# EAGLE library part ST2-BOARD-50-END (library module-footprints)
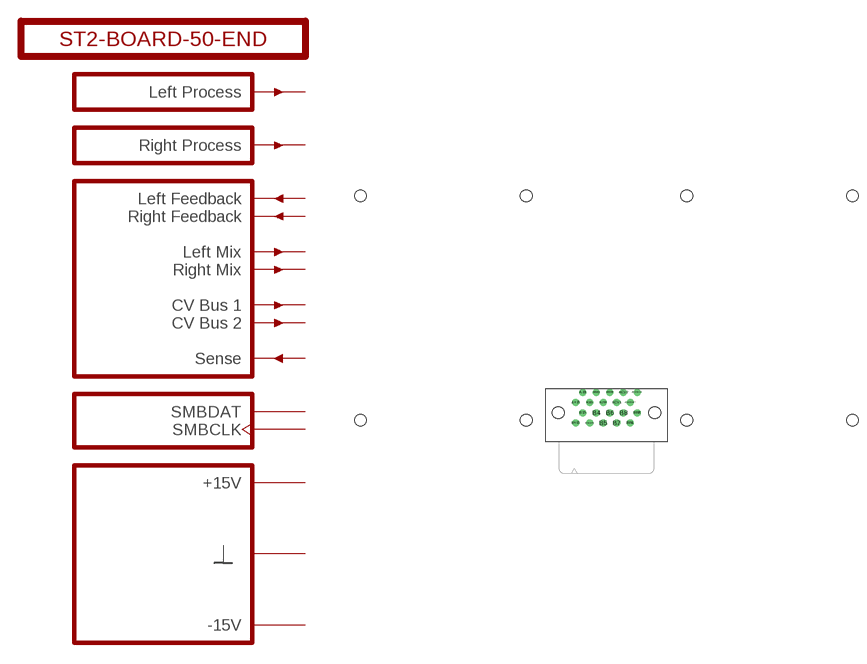
[diagram p4: symbol with the pads of ST2-BOARD-50-END; footprint ST2-BOARD-50-END]

Designator prefix PCB; gates G$1=VERSION G$2=INL G$3=INR G$6=BUS-LEFT G$8=SMBUS G$9=SUPPLY

## ST2-BOARD-50-END  [ST2-BOARD-50-END]
A+15  G$9:P+15V
A-15  G$9:P-15V
ACV1  G$6:CV1
ACV2  G$6:CV2
ALFBK  G$6:LFBK
ALMIX  G$6:LMIX
ARFBK  G$6:RFBK
ARMIX  G$6:RMIX
ASMBCLK  G$8:SMBCLK
ASMBDAT  G$8:SMBDAT
B4  G$9:GND
B5  G$9:GND
B6  G$9:GND
B7  G$9:GND
B8  G$9:GND
B+15  G$9:P+15V
B-15  G$9:P-15V
BINL  G$2:INL
BINR  G$3:INR
BSENSE  G$6:SENSE

## Footprint ST2-BOARD-50-END (pad centres in mm)
drill 0.8: A+15 44.285,7.31; A-15 45.555,9.215; ACV1 51.905,7.31; ACV2 53.175,9.215; ALFBK 49.365,7.31; ALMIX 46.825,7.31; ARFBK 50.635,9.215; ARMIX 48.095,9.215; ASMBCLK 55.715,9.215; ASMBDAT 54.445,7.31; B4 48.095,5.405; B5 49.365,3.5; B6 50.635,5.405; B7 51.905,3.5; B8 53.175,5.405; B+15 44.285,3.5; B-15 45.555,5.405; BINL 54.445,3.5; BINR 55.715,5.405; BSENSE 46.825,3.5
hole 2.2 at 4,4
hole 2.2 at 4,46
hole 2.2 at 96,4
hole 2.2 at 96,46
hole 2.2 at 35,46
hole 2.2 at 65,46
hole 2.2 at 65,4
hole 2.2 at 35,4
hole 2.2 at 59.025,5.405
hole 2.2 at 40.975,5.405